# Altium footprint library DualMetro.PcbLib: 19 footprints (part 1 of 2)
Each footprint in its own frame and in the unit in brackets; x right, y up, seen from the top. Pads: shape width x height; smd on the part's side, far side on the other; paste and mask are expansions set on the pad; w line width, h text height; cw(c..) or ccw(c..) is an arc to the next point about the centre after c.
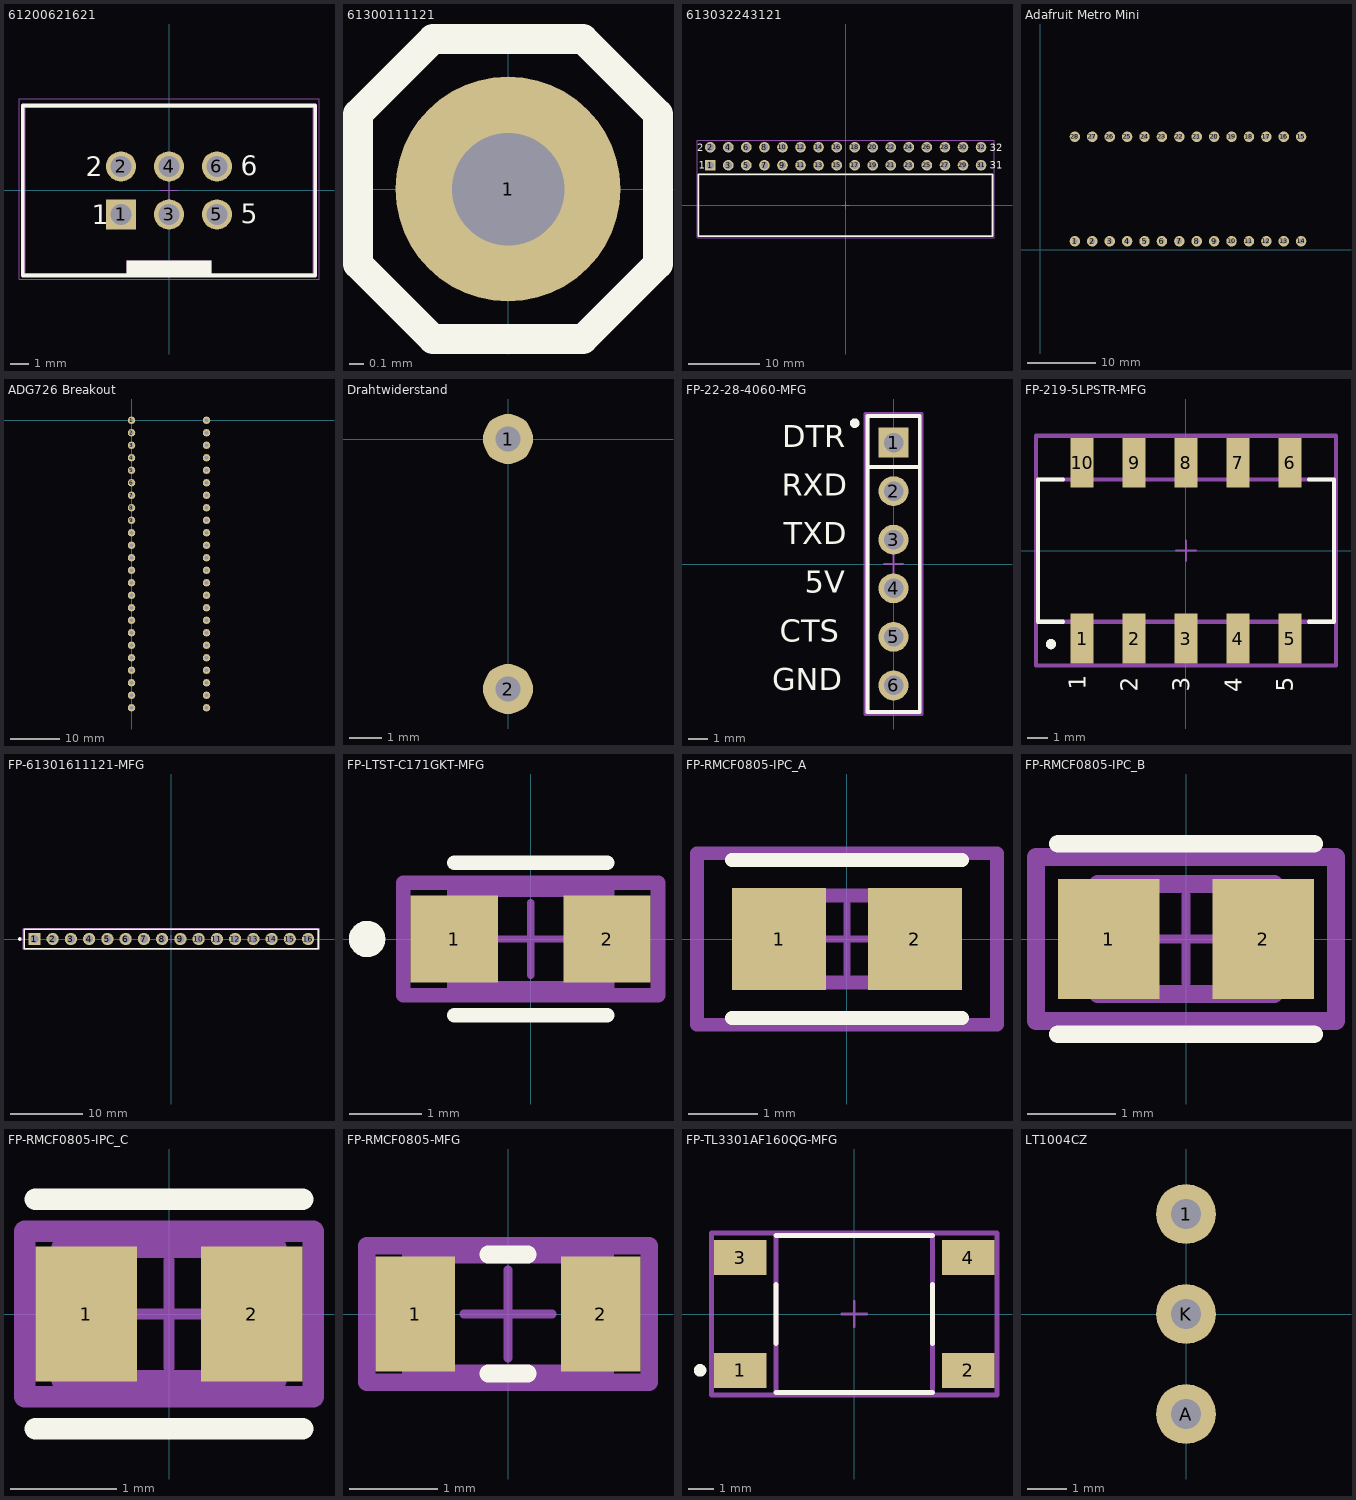
[diagram p0: the footprints below, top view; thin cyan lines are the x and y axes]

## 61200621621 [mm] "6 pins, straight, gold plating"
height 9.1
pads (6):
  rect 1.6x1.6 hole 1.1: 1(-2.54,-1.27)
  round 1.6 hole 1.1: 2(-2.54,1.27) 3(0,-1.27) 4(0,1.27) 5(2.54,-1.27) 6(2.54,1.27)
Top Overlay:
  rectangle: -2.25,-4.5 2.25,-3.7
  lines w0.2: -7.74,-4.5 -7.74,4.5 7.74,4.5 7.74,-4.5 -7.74,-4.5
  text "5" at 3.8,-1.74 h1.02
  text "2" at -4.4,0.74 h1.02
  text "6" at 3.8,0.8 h1.02
  text "1" at -4.1,-1.8 h1.02
Mechanical 13:
  rectangle: -2.25,-4.425 2.25,-3.7
  lines w0.1: -7.64,-4.425 7.64,-4.425 7.64,4.425 -7.64,4.425 -7.64,-4.425
Mechanical 15:
  lines w0.05: -0.5,0 0.5,0 ; 0,-0.5 0,0.5 ; -7.94,-4.7 -7.94,4.85 7.94,4.85 7.94,-4.7 -7.94,-4.7
3D body "61200621621.stp": height 9.13, standoff -2.98, extent -7.64,-4.425 7.64,4.75

## 61300111121 [mil] "Pin Header, pitch 2.54 mm, THT, Vertical, single row, 1p"
height 336.22
pads (1):
  round 60 hole 30: 1(0,0)
Top Overlay:
  lines w7.87: -40,-20 -40,20 -20,40 20,40 40,20 40,-20 20,-40 -20,-40 -40,-20
Bottom Overlay:
  lines w7.87: -40,-20 -40,20 -20,40 20,40 40,20 40,-20 20,-40 -20,-40 -40,-20
Mechanical 15:
  lines w1.97: -19.68,0 19.68,0 ; 0,-19.68 0,19.68

## 613032243121 [mm] "Socket Header, Pitch 2.54 mm, THT, Angled, dual row, 32p"
height 5.08
pads (32):
  rect 1.5x1.5 hole 1.02: 1(-19.05,5.61)
  round 1.5 hole 1.02: 2(-19.05,8.15) 3(-16.51,5.61) 4(-16.51,8.15) 5(-13.97,5.61) 6(-13.97,8.15) 7(-11.43,5.61) 8(-11.43,8.15) 9(-8.89,5.61) 10(-8.89,8.15) 11(-6.35,5.61) 12(-6.35,8.15) 13(-3.81,5.61) 14(-3.81,8.15) 15(-1.27,5.61) 16(-1.27,8.15) 17(1.27,5.61) 18(1.27,8.15) 19(3.81,5.61) 20(3.81,8.15) 21(6.35,5.61) 22(6.35,8.15) 23(8.89,5.61) 24(8.89,8.15) 25(11.43,5.61) 26(11.43,8.15) 27(13.97,5.61) 28(13.97,8.15) 29(16.51,5.61) 30(16.51,8.15) 31(19.05,5.61) 32(19.05,8.15)
Top Overlay:
  lines w0.2: -20.72,-4.35 20.72,-4.35 20.72,4.35 -20.72,4.35 -20.72,-4.35
  text "31" at 20.28,5.1 h1.02
  text "32" at 20.28,7.6 h1.02
  text "2" at -20.88,7.6 h1.02
  text "1" at -20.68,5.1 h1.02
Mechanical 13:
  lines w0.1: -20.57,-4.25 -20.57,4.25 20.57,4.25 20.57,-4.25 -20.57,-4.25
Mechanical 15:
  lines w0.05: -0.5,0 0.5,0 ; 0,-0.5 0,0.5 ; -20.92,-4.55 20.92,-4.55 20.92,9.1 -20.92,9.1 -20.92,-4.55
3D body "613032243121.stp": height 5.05, standoff -3.25, extent -20.57,-4.25 20.57,8.35

## Adafruit Metro Mini [mil] "ATmega328P development board"
height 196.85
pads (28):
  round 60 hole 30: 1(200,50) 2(300,50) 3(400,50) 4(500,50) 5(600,50) 6(700,50) 7(800,50) 8(900,50) 9(1000,50) 10(1100,50) 11(1200,50) 12(1300,50) 13(1400,50) 14(1500,50) 15(1500,650) 16(1400,650) 17(1300,650) 18(1200,650) 19(1100,650) 20(1000,650) 21(900,650) 22(800,650) 23(700,650) 24(600,650) 25(500,650) 26(400,650) 27(300,650) 28(200,650)
Top Solder:
  lines w10: -23.4,100.31 -23.4,576.6 cw(c100,576.6) 100,700 1600,700 cw(c1600,600) 1700,600 1700,100 cw(c1600,100) 1600,0 76.9,0.01 cw(c76.9,100.01) -23.1,100.01
  text "Adafruit Metro Mini" at 460.94,318.58 h60
3D body "2590 Metro Mini Rev B - with headers.step": height 606.56, standoff -117.61, extent -21.46,0 1701.46,700

## ADG726 Breakout [mil]
pads (48):
  round 60 hole 30: 1(0,0) 2(0,-100) 3(0,-200) 4(0,-300) 5(0,-400) 6(0,-500) 7(0,-600) 8(0,-700) 9(0,-800) 10(0,-900) 11(0,-1000) 12(0,-1100) 13(0,-1200) 14(0,-1300) 15(0,-1400) 16(0,-1500) 17(0,-1600) 18(0,-1700) 19(0,-1800) 20(0,-1900) 21(0,-2000) 22(0,-2100) 23(0,-2200) 24(0,-2300) 25(600,-2300) 26(600,-2200) 27(600,-2100) 28(600,-2000) 29(600,-1900) 30(600,-1800) 31(600,-1700) 32(600,-1600) 33(600,-1500) 34(600,-1400) 35(600,-1300) 36(600,-1200) 37(600,-1100) 38(600,-1000) 39(600,-900) 40(600,-800) 41(600,-700) 42(600,-600) 43(600,-500) 44(600,-400) 45(600,-300) 46(600,-200) 47(600,-100) 48(600,0)
Top Solder:
  lines w10: -50,-50 50,-50 50,50 ; -50,-2350 650,-2350 650,50 -50,50 -50,-2350
3D body "ADG726 Breakout PCB.step": height 555.3, standoff -117.61, extent -70,-2380 670,80

## Drahtwiderstand [mil]
pads (2):
  round 60 hole 30: 1(0,0) 2(0,-300)
Top Solder:
  lines w10: 0,-260 0,-230 ; 0,-70 0,-40 ; -30,-230 30,-230 30,-70 -30,-70 -30,-230

## FP-22-28-4060-MFG [mm]
pads (6):
  rect 1.57x1.57 hole 1.02 paste-1000 mask+0: 1(0,6.35)
  round 1.57 hole 1.02 paste-1000 mask+0: 2(0,3.81) 3(0,1.27) 4(0,-1.27) 5(0,-3.81) 6(0,-6.35)
Top Overlay:
  circle w0.25: c-2.032,7.366 r0.125
  lines w0.2: -1.37,5.08 1.37,5.08 ; -1.37,-7.745 -1.37,7.745 1.37,7.745 1.37,-7.745 -1.37,-7.745
  text "GND" at -6.339,-6.989 h2
  text "CTS" at -5.943,-4.449 h2
  text "5V" at -4.647,-1.898 h2
  text "TXD" at -5.732,0.63 h2
  text "RXD" at -5.842,3.17 h2
  text "DTR" at -5.82,5.71 h2
Top 3D Body:
  lines w0.2: -1.37,-7.745 -1.37,7.745 1.37,7.745 1.37,-7.745 -1.37,-7.745
Top Courtyard:
  lines w0.2: -1.47,-7.845 -1.47,7.845 1.47,7.845 1.47,-7.845 -1.47,-7.845
Top Assembly:
  lines w0.2: -1.47,-7.845 -1.47,7.845 1.47,7.845 1.47,-7.845 -1.47,-7.845
  text ".Designator" at -1.27,8.57 h1
Top Component Center:
  lines w0.1: -0.5,0 0.5,0 ; 0,-0.5 0,0.5
3D body "Female_Header_1x06_P2.54_H8.5_straight.step": height 8.5, standoff -3, extent -1.27,-7.62 1.23,7.62

## FP-219-5LPSTR-MFG [mm]
pads (10):
  rect 1.13x2.44 smd paste+0 mask+0: 1(-5.08,-4.3) 2(-2.54,-4.3) 3(0,-4.3) 4(2.54,-4.3) 5(5.08,-4.3) 6(5.08,4.3) 7(2.54,4.3) 8(0,4.3) 9(-2.54,4.3) 10(-5.08,4.3)
Top Overlay:
  circle w0.25: c-6.604,-4.572 r0.125
  lines w0.2: -6.02,-3.475 -7.235,-3.475 -7.235,3.475 -6.02,3.475 ; 6.02,-3.475 7.235,-3.475 7.235,3.475 6.02,3.475
  text "1" at -4.631,-6.8 h1.4
  text "2" at -2.091,-6.905 h1.4
  text "3" at 0.441,-6.902 h1.4
  text "4" at 2.989,-6.926 h1.4
  text "5" at 5.514,-6.905 h1.4
Top 3D Body:
  lines w0.2: -7.235,-3.475 7.235,-3.475 7.235,3.475 -7.235,3.475 -7.235,-3.475
Top Courtyard:
  lines w0.2: -7.335,-5.62 7.335,-5.62 7.335,5.62 -7.335,5.62 -7.335,-5.62
Top Assembly:
  lines w0.2: -7.335,-5.62 7.335,-5.62 7.335,5.62 -7.335,5.62 -7.335,-5.62
  text ".Designator" at 0,0.188 h1
Top Component Center:
  lines w0.1: -0.5,0 0.5,0 ; 0,-0.5 0,0.5
3D body "Switch_CTS_Components_219-5LPSTR_eec.STEP": height 0.25, standoff 0, extent -7.335,-5.62 7.335,5.62

## FP-61301611121-MFG [mm]
pads (16):
  rect 1.7x1.7 hole 1.1 paste-1000 mask+0: 1(-19.05,0)
  round 1.7 hole 1.1 paste-1000 mask+0: 2(-16.51,0) 3(-13.97,0) 4(-11.43,0) 5(-8.89,0) 6(-6.35,0) 7(-3.81,0) 8(-1.27,0) 9(1.27,0) 10(3.81,0) 11(6.35,0) 12(8.89,0) 13(11.43,0) 14(13.97,0) 15(16.51,0) 16(19.05,0)
Top Overlay:
  circle w0.25: c-21.07,0 r0.125
  lines w0.2: -20.47,-1.345 -20.47,1.345 20.47,1.345 20.47,-1.345 -20.47,-1.345
Top 3D Body:
  lines w0.2: -20.47,-1.345 -20.47,1.345 20.47,1.345 20.47,-1.345 -20.47,-1.345
Top Courtyard:
  lines w0.2: -20.57,-1.445 -20.57,1.445 20.57,1.445 20.57,-1.445 -20.57,-1.445
Top Assembly:
  lines w0.2: -20.57,-1.445 -20.57,1.445 20.57,1.445 20.57,-1.445 -20.57,-1.445
  text ".Designator" at 0,0.188 h1
Top Component Center:
  lines w0.1: -0.5,0 0.5,0 ; 0,-0.5 0,0.5
3D body "Conn_Wurth_Electronics_61301611121_eec.STEP": height 0.25, standoff 0, extent -20.57,-1.445 20.57,1.445

## FP-LTST-C171GKT-MFG [mm]
pads (2):
  rect 1.2x1.2 smd paste+0 mask+0: 1(-1.05,0) 2(1.05,0)
Top Overlay:
  circle w0.25: c-2.25,0 r0.125
  lines w0.2: -1.05,-1.05 1.05,-1.05 ; -1.05,1.05 1.05,1.05
Top 3D Body:
  lines w0.2: -1.05,-0.675 1.05,-0.675 1.05,0.675 -1.05,0.675 -1.05,-0.675
Top Courtyard:
  lines w0.2: -1.75,-0.775 1.75,-0.775 1.75,0.775 -1.75,0.775 -1.75,-0.775
Top Assembly:
  lines w0.2: -1.75,-0.775 1.75,-0.775 1.75,0.775 -1.75,0.775 -1.75,-0.775
  text ".Designator" at 0,0 h1
Top Component Center:
  lines w0.1: -0.5,0 0.5,0 ; 0,-0.5 0,0.5
3D body "Diode_Lite-On_LTST-C171GKT_eec.STEP": height 0.25, standoff 0, extent -1.75,-0.775 1.75,0.775

## FP-RMCF0805-IPC_A [mil]
pads (2):
  rect 53.33x57.56 smd paste+0 mask+0: 1(-38.42,0) 2(38.42,0)
Top Overlay:
  lines w7.87: -65.08,-44.53 65.08,-44.53 ; -65.08,44.53 65.08,44.53
Top 3D Body:
  lines w7.87: -39.37,-24.61 39.37,-24.61 39.37,24.61 -39.37,24.61 -39.37,-24.61
Top Courtyard:
  lines w7.87: -84.77,-48.47 84.77,-48.47 84.77,48.47 -84.77,48.47 -84.77,-48.47
Top Assembly:
  lines w7.87: -84.77,-48.47 84.77,-48.47 84.77,48.47 -84.77,48.47 -84.77,-48.47
  text ".Designator" at 0,7.4 h39.37
Top Component Center:
  lines w3.94: -19.68,0 19.68,0 ; 0,-19.68 0,19.68
3D body "Res_Stackpole_Electronics_RMCF0805ZT0R00_eec.STEP": height 10, standoff 0, extent -84.77,-48.47 84.77,48.47

## FP-RMCF0805-IPC_B [mil]
pads (2):
  rect 45.46x53.63 smd paste+0 mask+0: 1(-34.48,0) 2(34.48,0)
Top Overlay:
  lines w7.87: -57.21,-42.56 57.21,-42.56 ; -57.21,42.56 57.21,42.56
Top 3D Body:
  lines w7.87: -39.37,-24.61 -39.37,24.61 39.37,24.61 39.37,-24.61 -39.37,-24.61
Top Courtyard:
  lines w7.87: -67.05,-36.66 -67.05,36.66 67.05,36.66 67.05,-36.66 -67.05,-36.66
Top Assembly:
  lines w7.87: -67.05,-36.66 -67.05,36.66 67.05,36.66 67.05,-36.66 -67.05,-36.66
  text ".Designator" at 0,7.4 h39.37
Top Component Center:
  lines w3.94: -19.68,0 19.68,0 ; 0,-19.68 0,19.68
3D body "Res_Stackpole_Electronics_RMCF0805ZT0R00_eec.STEP": height 10, standoff 0, extent -67.05,-36.66 67.05,36.66

## FP-RMCF0805-IPC_C [mil]
pads (2):
  rect 37.58x49.69 smd paste+0 mask+0: 1(-30.54,0) 2(30.54,0)
Top Overlay:
  lines w7.87: -49.33,-42.32 49.33,-42.32 ; -49.33,42.32 49.33,42.32
Top 3D Body:
  lines w7.87: -39.37,-24.61 39.37,-24.61 39.37,24.61 -39.37,24.61 -39.37,-24.61
Top Courtyard:
  lines w7.87: -53.27,-30.51 53.27,-30.51 53.27,30.51 -53.27,30.51 -53.27,-30.51
Top Assembly:
  lines w7.87: -53.27,-30.51 53.27,-30.51 53.27,30.51 -53.27,30.51 -53.27,-30.51
  text ".Designator" at 0,7.4 h39.37
Top Component Center:
  lines w3.94: -19.68,0 19.68,0 ; 0,-19.68 0,19.68
3D body "Res_Stackpole_Electronics_RMCF0805ZT0R00_eec.STEP": height 10, standoff 0, extent -53.27,-30.51 53.27,30.51

## FP-RMCF0805-MFG [mm]
pads (2):
  rect 0.9x1.3 smd paste+0 mask+0: 1(-1.05,0) 2(1.05,0)
Top Overlay:
  lines w0.2: -0.225,-0.675 0.225,-0.675 ; -0.225,0.675 0.225,0.675
Top 3D Body:
  lines w0.2: -1.1,-0.675 1.1,-0.675 1.1,0.675 -1.1,0.675 -1.1,-0.675
Top Courtyard:
  lines w0.2: -1.6,-0.775 1.6,-0.775 1.6,0.775 -1.6,0.775 -1.6,-0.775
Top Assembly:
  lines w0.2: -1.6,-0.775 1.6,-0.775 1.6,0.775 -1.6,0.775 -1.6,-0.775
  text ".Designator" at 0,0.188 h1
Top Component Center:
  lines w0.1: -0.5,0 0.5,0 ; 0,-0.5 0,0.5
3D body "Res_Stackpole_Electronics_RMCF0805ZT0R00_eec.STEP": height 0.25, standoff 0, extent -1.6,-0.775 1.6,0.775

## FP-TL3301AF160QG-MFG [mm]
pads (4):
  rect 2.1x1.4 smd paste+0 mask+0: 1(-4.55,-2.25) 2(4.55,-2.25) 3(-4.55,2.25) 4(4.55,2.25)
Top Overlay:
  circle w0.25: c-6.15,-2.25 r0.125
  lines w0.2: -3.125,-3.125 3.125,-3.125 ; -3.125,-1.175 -3.125,1.175 ; -3.125,3.125 3.125,3.125 ; 3.125,-1.175 3.125,1.175
Top 3D Body:
  lines w0.2: -3.125,-3.125 -3.125,3.125 3.125,3.125 3.125,-3.125 -3.125,-3.125
Top Courtyard:
  lines w0.2: -5.7,-3.225 -5.7,3.225 5.7,3.225 5.7,-3.225 -5.7,-3.225
Top Assembly:
  lines w0.2: -5.7,-3.225 -5.7,3.225 5.7,3.225 5.7,-3.225 -5.7,-3.225
  text ".Designator" at 0,0.188 h1
Top Component Center:
  lines w0.1: -0.5,0 0.5,0 ; 0,-0.5 0,0.5
3D body "Switch_E-Switch_TL3301AF160QG_eec.STEP": height 0.25, standoff 0, extent -5.7,-3.225 5.7,3.225

## LT1004CZ [mil] "Voltage Reference"
pads (3):
  round 60 hole 30: 1(0,100) A(0,-100) K(0,0)
Top Solder:
  lines w10: 0,-150 cw(c0,0) 0,150 100,150 100,-150 0,-150
3D body "To92vf.stp": height 314.96, standoff -39.37, extent -100,-108.27 57.47,108.27